# EAGLE library part HOPERF-DB (library hoperf_rfm24w)
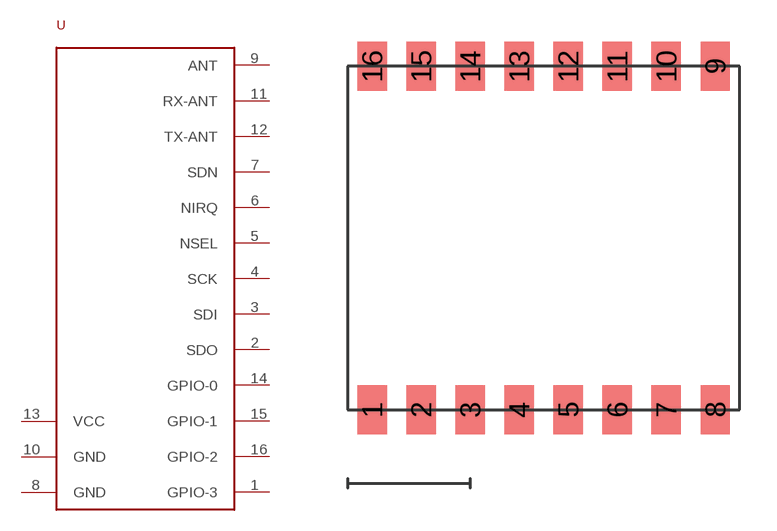
[diagram p0: symbol with the pads of HOPERF-DB; footprint HOPERF-DB]

Designator prefix -

## HOPERF-DB  [HOPERF-DB]
1  GPIO-3
2  SDO
3  SDI
4  SCK
5  NSEL
6  NIRQ
7  SDN
8  GND
9  ANT
10  GND
11  RX-ANT
12  TX-ANT
13  VCC
14  GPIO-0
15  GPIO-1
16  GPIO-2

## Footprint HOPERF-DB (pad centres in mm)
smd 1.2 x 2: 1 1,0; 2 3,0; 3 5,0; 4 7,0; 5 9,0; 6 11,0; 7 13,0; 8 15,0; 9 15,14; 10 13,14; 11 11,14; 12 9,14; 13 7,14; 14 5,14; 15 3,14; 16 1,14